# Altium schematic symbol library MechanicalRelay.SchLib: 1 symbol
Pins are listed as number, name and electrical type; pins without a type are passive.

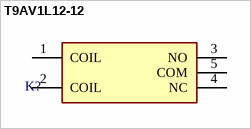
[diagram p0: symbol T9AV1L12-12]

## T9AV1L12-12
designator K?
General Purpose Relay SPST-NO (1 Form A) 12VDC Coil Through Hole; Value: *; Manufacturer Part Number 1: *; Manufacturer 1: *
footprint T9AV1L12-12 (General Purpose Relay SPST-NO (1 Form A) 12VDC Coil Through Hole)
pins: 1 COIL, 2 COIL, 3 NO, 4 NC, 5 COM